# EAGLE library part TS5V330C (library ICs)
4 Bit 1-of-2 FET Video Multiplexer
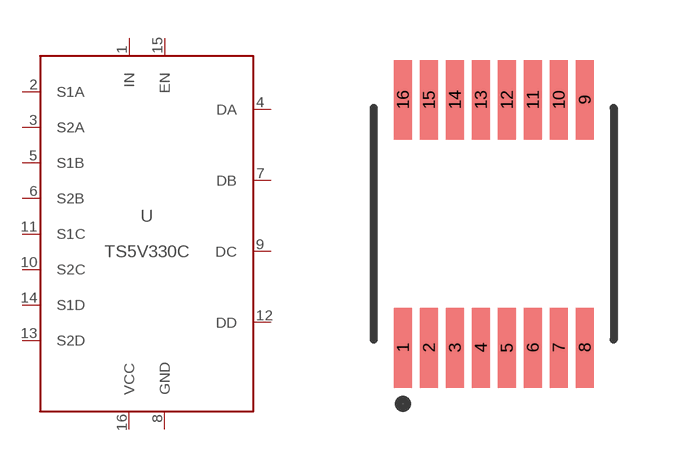
[diagram p42: symbol with the pads of TSSOP16; footprint TSSOP16]

Designator prefix U

## TS5V330C (MFG: Texas Instruments; PN: TS5V330C; VALUE: TS5V330C)  [TSSOP16]
1  IN
2  S1A
3  S2A
4  DA
5  S1B
6  S2B
7  DB
8  GND  pwr
9  DC
10  S2C
11  S1C
12  DD
13  S2D
14  S1D
15  EN
16  VCC  pwr

## Footprint TSSOP16 (pad centres in mm)
16-Lead Plastic Thin Shrink Small Outline (ST) - 4.4 mm Body TSSOP
smd 0.45 x 2: 1 -2.275,-3.1; 2 -1.625,-3.1; 3 -0.975,-3.1; 4 -0.325,-3.1; 5 0.325,-3.1; 6 0.975,-3.1; 7 1.625,-3.1; 8 2.275,-3.1; 9 2.275,3.1; 10 1.625,3.1; 11 0.975,3.1; 12 0.325,3.1; 13 -0.325,3.1; 14 -0.975,3.1; 15 -1.625,3.1; 16 -2.275,3.1